# Altium footprint library PCB12.PcbLib: 15 footprints
Each footprint in its own frame and in the unit in brackets; x right, y up, seen from the top. Pads: shape width x height; smd on the part's side, far side on the other; paste and mask are expansions set on the pad; w line width, h text height; cw(c..) or ccw(c..) is an arc to the next point about the centre after c.
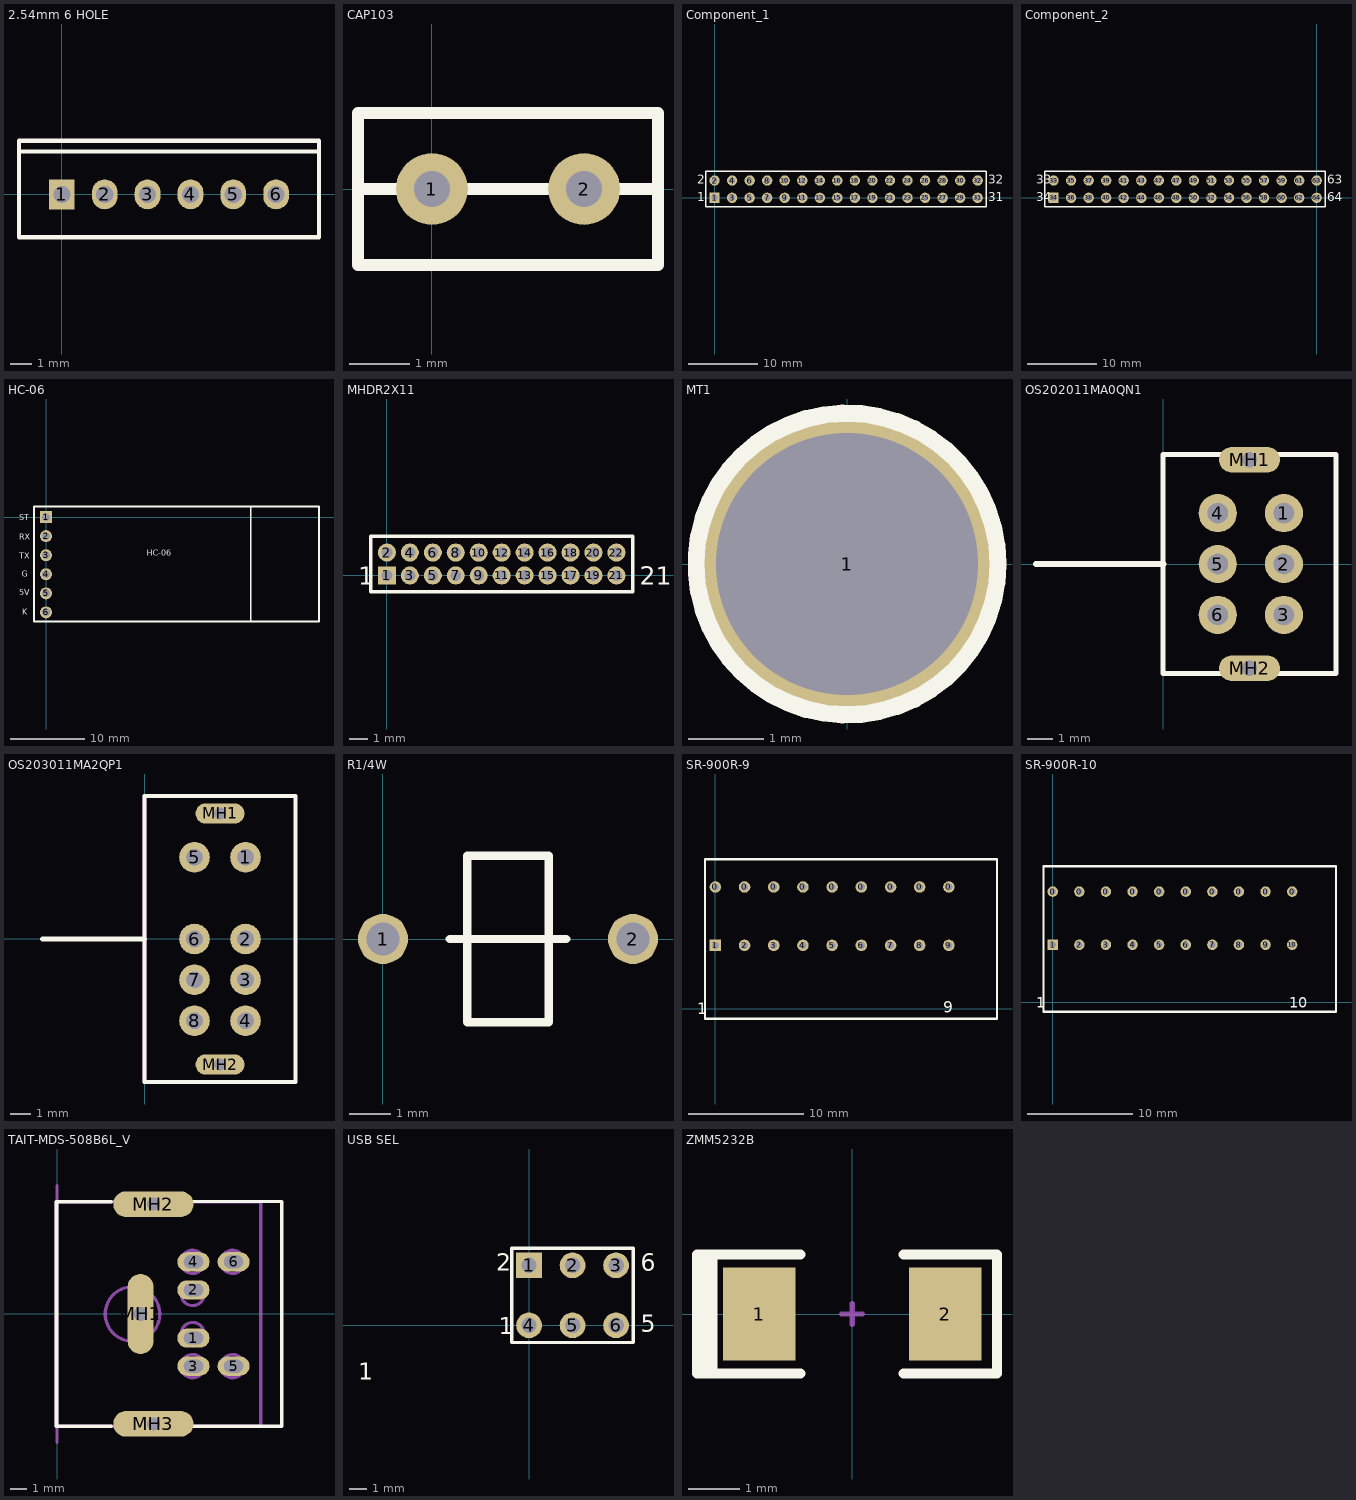
[diagram p0: the footprints below, top view; thin cyan lines are the x and y axes]

## 2.54mm 6 HOLE [mm] "Connector; Header; 6 Position"
height 20.3
pads (6):
  rect 1.2x1.4 hole 0.8: 1(0,0)
  oval 1.2x1.4 hole 0.8: 2(2,0) 3(4,0) 4(6,0) 5(8,0) 6(10,0)
Top Overlay:
  lines w0.2: -2,2 12,2 ; -2,-2 12,-2 12,2.5 -2,2.5 -2,-2

## CAP103 [mm]
height 8.58
pads (2):
  round 1.2 hole 0.6: 1(0,0) 2(2.54,0)
Top Overlay:
  lines w0.2: -1.235,0 1.34,0 ; 1.2,0 3.775,0 ; 3.775,0 3.775,-1.27 -1.235,-1.27 -1.235,1.27 3.775,1.27 3.775,0

## Component_1 [mm] "Connector; Header; 16x2 Position"
pads (32):
  rect 1.5x1.5 hole 0.9: 1(0,0)
  round 1.5 hole 0.9: 2(0,2.5) 3(2.54,0) 4(2.54,2.5) 5(5.08,0) 6(5.08,2.5) 7(7.62,0) 8(7.62,2.5) 9(10.16,0) 10(10.16,2.5) 11(12.7,0) 12(12.7,2.5) 13(15.24,0) 14(15.24,2.5) 15(17.78,0) 16(17.78,2.5) 17(20.32,0) 18(20.32,2.5) 19(22.86,0) 20(22.86,2.5) 21(25.4,0) 22(25.4,2.5) 23(27.94,0) 24(27.94,2.5) 25(30.48,0) 26(30.48,2.5) 27(33.02,0) 28(33.02,2.5) 29(35.56,0) 30(35.56,2.5) 31(38.1,0) 32(38.1,2.5)
Top Overlay:
  lines w0.2: -1.27,-1.27 -1.27,3.81 39.37,3.81 39.37,-1.27 -1.27,-1.27
  text "32" at 39.624,2.032 h1.27
  text "31" at 39.624,-0.508 h1.27
  text "1" at -2.54,-0.508 h1.27
  text "2" at -2.54,2.032 h1.27

## Component_2 [mm] "Connector; Header; 16x2 Position"
pads (32):
  round 1.5 hole 0.9: 33(-38.1,2.5) 35(-35.56,2.5) 36(-35.56,0) 37(-33.02,2.5) 38(-33.02,0) 39(-30.48,2.5) 40(-30.48,0) 41(-27.94,2.5) 42(-27.94,0) 43(-25.4,2.5) 44(-25.4,0) 46(-22.86,0) 47(-22.86,2.5) 47(-20.32,2.5) 48(-20.32,0) 49(-17.78,2.5) 50(-17.78,0) 51(-15.24,2.5) 52(-15.24,0) 53(-12.7,2.5) 54(-12.7,0) 55(-10.16,2.5) 56(-10.16,0) 57(-7.62,2.5) 58(-7.62,0) 59(-5.08,2.5) 60(-5.08,0) 61(-2.54,2.5) 62(-2.54,0) 63(0,2.5) 64(0,0)
  rect 1.5x1.5 hole 0.9: 34(-38.1,0)
Top Overlay:
  lines w0.2: -39.37,-1.27 1.27,-1.27 1.27,3.81 -39.37,3.81 -39.37,-1.27
  text "33" at -40.64,2.032 h1.27
  text "34" at -40.64,-0.508 h1.27
  text "64" at 1.524,-0.508 h1.27
  text "63" at 1.524,2.032 h1.27

## HC-06 [mm]
height 8.58
pads (6):
  rect 1.6x1.6 hole 1.02: 1(0,0)
  round 1.6 hole 1.02: 2(0,-2.54) 3(0,-5.08) 4(0,-7.62) 5(0,-10.16) 6(0,-12.7)
Top Overlay:
  lines w0.254: 27.3,-13.9 27.3,1.4 ; -1.6,-13.9 -1.6,1.4 36.4,1.4 36.4,-13.9 -1.6,-13.9
  text "HC-06" at 13.416,-5.16 h0.8
  text "K" at -3.2,-13.02 h0.8
  text "5V" at -3.6,-10.42 h0.8
  text "G" at -3.2,-7.92 h0.8
  text "TX" at -3.6,-5.52 h0.8
  text "RX" at -3.6,-3.02 h0.8
  text "ST" at -3.6,-0.42 h0.8
3D body "User Library-HC-06.step": height 8, standoff 1.9, extent -6.5,-13.75 36.25,1.25

## MHDR2X11 [mm] "Connector; Header; 11x2 Position"
pads (22):
  rect 1x1 hole 0.6: 1(0,0)
  round 1 hole 0.6: 2(0,1.27) 3(1.27,0) 4(1.27,1.27) 5(2.54,0) 6(2.54,1.27) 7(3.81,0) 8(3.81,1.27) 9(5.08,0) 10(5.08,1.27) 11(6.35,0) 12(6.35,1.27) 13(7.62,0) 14(7.62,1.27) 15(8.89,0) 16(8.89,1.27) 17(10.16,0) 18(10.16,1.27) 19(11.43,0) 20(11.43,1.27) 21(12.7,0) 22(12.7,1.27)
Top Overlay:
  lines w0.2: -0.9,-0.9 13.6,-0.9 13.6,2.17 -0.9,2.17 -0.9,-0.9
  text "21" at 14,-0.508 h1
  text "1" at -1.6,-0.508 h1

## MT1 [mm] "3.5PI Mount Hole"
height 8.58
pads (1):
  round 3.8 hole 3.5: 1(0,0)
Top Overlay:
  circle w0.254: c0,0 r2

## OS202011MA0QN1 [mm] "Mini DIN Connector"
pads (8):
  round 1.5 hole 0.8: 1(4.75,2) 2(4.75,0) 3(4.75,-2) 4(2.15,2) 5(2.15,0) 6(2.15,-2)
  oval 2.4x1 hole 0.6 square: MH1(3.4,4.1) MH2(3.4,-4.1)
Top Overlay:
  lines w0.2: 0,-4.3 0,4.3 6.8,4.3 6.8,-4.3 0,-4.3
  lines w0.254: -5,0 0,0

## OS203011MA2QP1 [mm] "Mini DIN Connector"
pads (10):
  round 1.5 hole 0.8: 1(4.95,4) 2(4.95,0) 3(4.95,-2) 4(4.95,-4) 5(2.45,4) 6(2.45,0) 7(2.45,-2) 8(2.45,-4)
  oval 2.4x1 hole 0.6 square: MH1(3.7,6.15) MH2(3.7,-6.15)
Top Overlay:
  lines w0.2: 0,-7 0,7 7.4,7 7.4,-7 0,-7
  lines w0.254: -5,0 0,0
Top 3D Body:
  lines w0.2: 0,-7 0,7 0,-7

## R1/4W [mm]
height 8.58
pads (2):
  round 1.2 hole 0.8: 1(0,0) 2(6,0)
Top Overlay:
  lines w0.2: 1.6,0 3.975,0 ; 2.025,0 4.4,0 ; 3.975,0 3.975,-2 2.025,-2 2.025,2 3.975,2 3.975,0

## SR-900R-9 [mm] "Connector; Header; 11x2 Position"
pads (18):
  round 1 hole 0.6: 0(0,10.58) 0(2.54,10.58) 0(5.08,10.58) 0(7.62,10.58) 0(10.16,10.58) 0(12.7,10.58) 0(15.25,10.58) 0(17.78,10.58) 0(20.32,10.58) 2(2.54,5.5) 3(5.08,5.5) 4(7.62,5.5) 5(10.16,5.5) 6(12.7,5.5) 7(15.25,5.5) 8(17.78,5.5) 9(20.32,5.5)
  rect 1x1 hole 0.6: 1(0,5.5)
Top Overlay:
  lines w0.2: -0.9,-0.9 24.51,-0.9 24.51,13 -0.9,13 -0.9,-0.9
  text "9" at 19.812,-0.381 h1
  text "1" at -1.6,-0.508 h1

## SR-900R-10 [mm] "Connector; Header; 11x2 Position"
pads (20):
  round 1 hole 0.6: 0(0,10.58) 0(2.54,10.58) 0(5.08,10.58) 0(7.62,10.58) 0(10.16,10.58) 0(12.7,10.58) 0(15.25,10.58) 0(17.78,10.58) 0(20.32,10.58) 0(22.86,10.58) 2(2.54,5.5) 3(5.08,5.5) 4(7.62,5.5) 5(10.16,5.5) 6(12.7,5.5) 7(15.25,5.5) 8(17.78,5.5) 9(20.32,5.5) 10(22.86,5.5)
  rect 1x1 hole 0.6: 1(0,5.5)
Top Overlay:
  lines w0.2: -0.9,-0.9 -0.9,13 27.05,13 27.05,-0.9 -0.9,-0.9
  text "10" at 22.606,-0.508 h1
  text "1" at -1.6,-0.508 h1

## TAIT-MDS-508B6L_V [mm] "Mini DIN Connector"
pads (9):
  oval 2x1.2 hole 1.2 slot 0.8 at 90 deg: 1(8.5,-1.5) 2(8.5,1.5) 3(8.5,-3.25) 4(8.5,3.25) 5(11,-3.25) 6(11,3.25)
  oval 1.6x5 hole 0.9 square unplated: MH1(5.2,0)
  oval 5x1.6 hole 0.8 square: MH2(6,6.85) MH3(6,-6.85)
Top Overlay:
  lines w0.2: -0.05,-7 -0.05,7 ; 3.37,-7 0,-7 0,7 3.39,7 ; 7.889,-7 14,-7 14,7 ; 7.889,7 14,7.02
Top 3D Body:
  circle w0.2: c10.95,3.25 r0.725
  circle w0.2: c10.95,-3.25 r0.725
  circle w0.2: c8.45,-3.25 r0.725
  circle w0.2: c8.45,-1.25 r0.725
  circle w0.2: c8.45,1.25 r0.725
  circle w0.2: c8.45,3.25 r0.725
  circle w0.2: c4.7,0 r1.697
  lines w0.2: 0,-8.001 0,-7 ; 0,8.001 0,7 ; 0,-7 0,7 ; 0,-7 0,7 ; -0.05,-7 12.7,-7 12.7,7 -0.05,7 -0.05,-7
  text "PCB Edge" at 1.143,-6.731 h0.8
3D body "Mini DIN - 6 Way - Purple.stp": height 13, standoff -3.2, extent -0.101,-7.025 12.698,6.975

## USB SEL [mm] "Connector; Header; 11x2 Position"
pads (6):
  rect 1.5x1.5 hole 0.9: 1(0,3.5)
  round 1.5 hole 0.9: 2(2.54,3.5) 3(5.08,3.5) 4(0,0) 5(2.54,0) 6(5.08,0)
Top Overlay:
  lines w0.2: -1,-1 -1,4.5 6.08,4.5 6.08,-1 -1,-1
  text "6" at 6.528,3.175 h1
  text "1" at -9.982,-3.175 h1
  text "1" at -1.778,-0.508 h1
  text "2" at -1.905,3.175 h1
  text "5" at 6.528,-0.381 h1

## ZMM5232B [mm] "SMT LED; 2 Flat Leads"
height 1.2
pads (2):
  rect 1.4x1.8 smd: 1(-1.8,0) 2(1.8,0)
Top Overlay:
  lines w0.2: -2.85,-1.15 -2.85,1.15 ; -2.7,-1.15 -2.7,1.15 ; -1,-1.15 -3,-1.15 -3,1.15 -1,1.15 ; 1,-1.15 2.8,-1.15 2.8,1.15 1,1.15
Mechanical 1:
  lines w0.1: -0.2,0 0.2,0 ; 0,-0.2 0,0.2